# Altium footprint library RFtest_2.PcbLib: 30 footprints (part 2 of 2)
Each footprint in its own frame and in the unit in brackets; x right, y up, seen from the top. Pads: shape width x height; smd on the part's side, far side on the other; paste and mask are expansions set on the pad; w line width, h text height; cw(c..) or ccw(c..) is an arc to the next point about the centre after c.
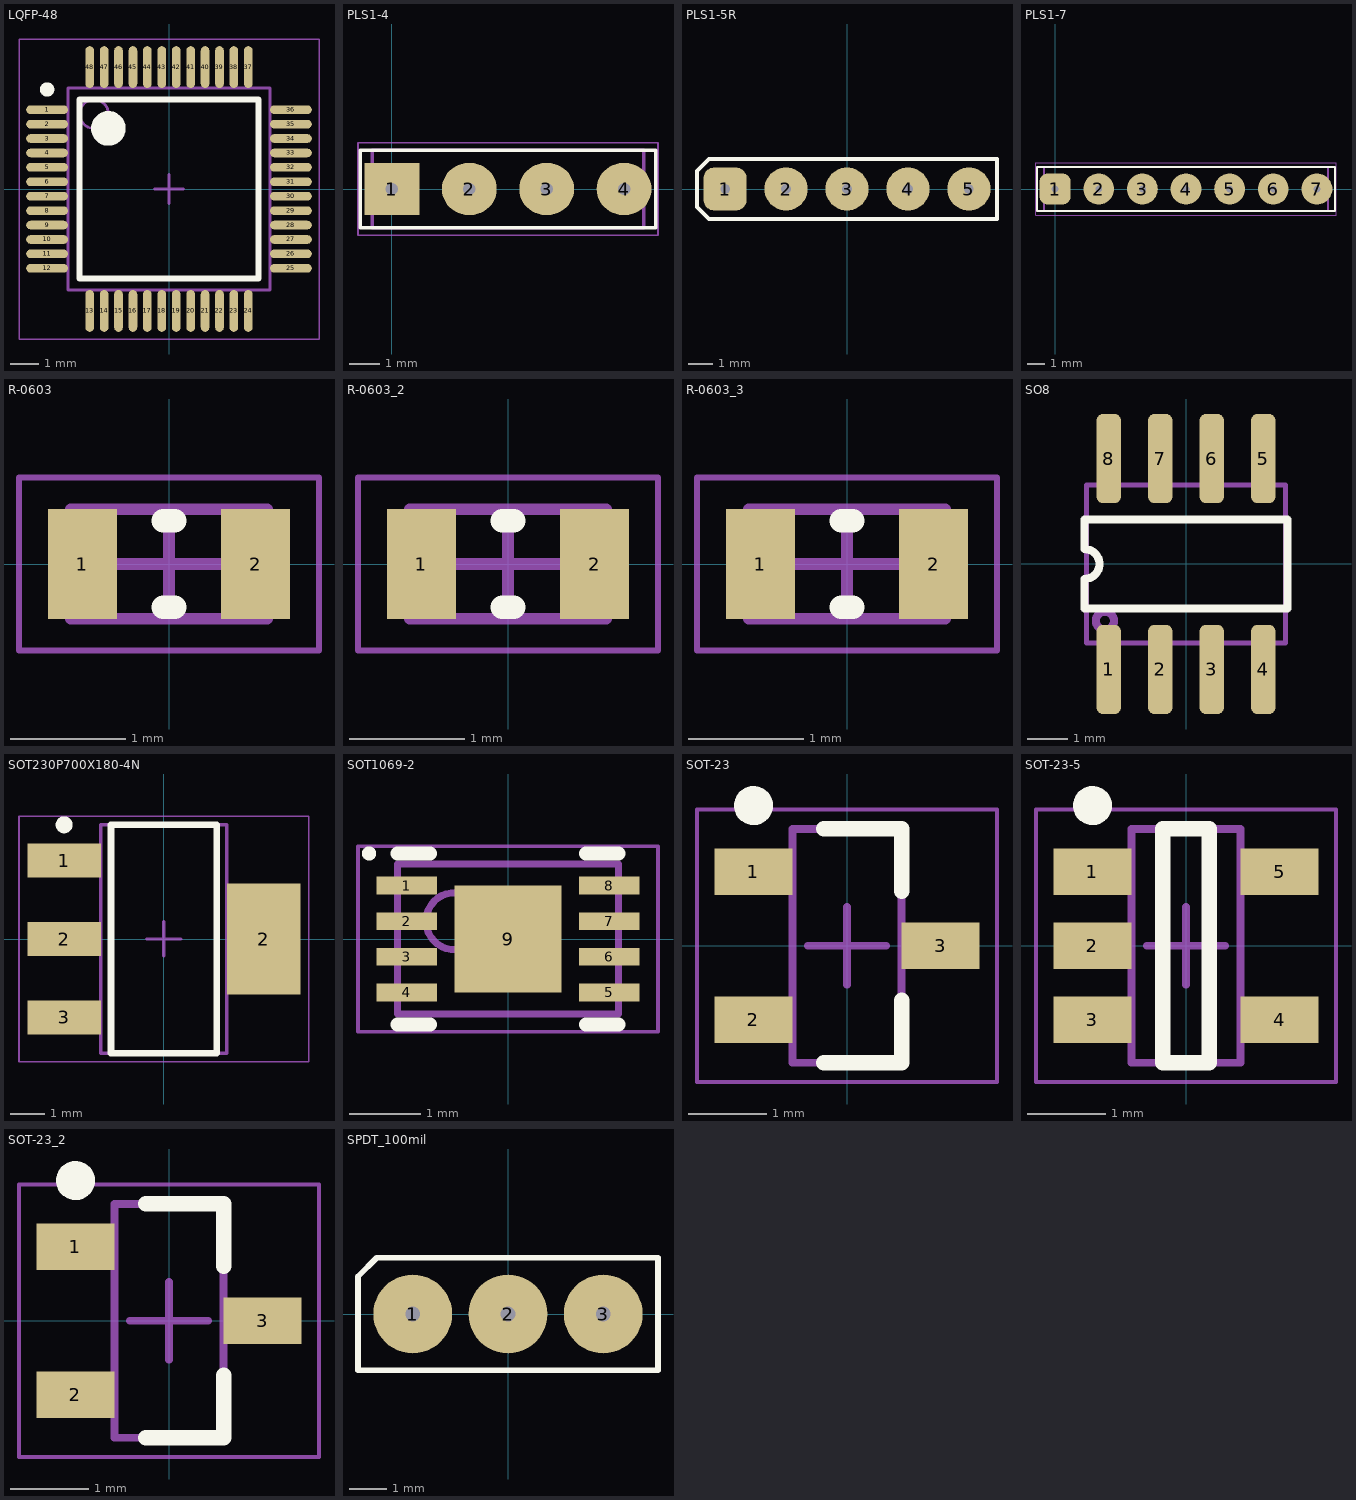
[diagram p1: the footprints below, top view; thin cyan lines are the x and y axes]

## LQFP-48 [mm] "TSQFP, 48-Leads, Body 7,00x7,00mm, Pitch 0,50mm, IPC Medium Density"
height 1.6
pads (48):
  oval 1.45x0.3 smd: 1(-4.225,2.75) 2(-4.225,2.25) 3(-4.225,1.75) 4(-4.225,1.25) 5(-4.225,0.75) 6(-4.225,0.25) 7(-4.225,-0.25) 8(-4.225,-0.75) 9(-4.225,-1.25) 10(-4.225,-1.75) 11(-4.225,-2.25) 12(-4.225,-2.75) 25(4.225,-2.75) 26(4.225,-2.25) 27(4.225,-1.75) 28(4.225,-1.25) 29(4.225,-0.75) 30(4.225,-0.25) 31(4.225,0.25) 32(4.225,0.75) 33(4.225,1.25) 34(4.225,1.75) 35(4.225,2.25) 36(4.225,2.75)
  oval 0.3x1.45 smd: 13(-2.75,-4.225) 14(-2.25,-4.225) 15(-1.75,-4.225) 16(-1.25,-4.225) 17(-0.75,-4.225) 18(-0.25,-4.225) 19(0.25,-4.225) 20(0.75,-4.225) 21(1.25,-4.225) 22(1.75,-4.225) 23(2.25,-4.225) 24(2.75,-4.225) 37(2.75,4.225) 38(2.25,4.225) 39(1.75,4.225) 40(1.25,4.225) 41(0.75,4.225) 42(0.25,4.225) 43(-0.25,4.225) 44(-0.75,4.225) 45(-1.25,4.225) 46(-1.75,4.225) 47(-2.25,4.225) 48(-2.75,4.225)
Top Overlay:
  circle w0.25: c-4.225,3.45 r0.125
  circle w0.6: c-2.1,2.1 r0.3
  lines w0.2: -3.1,-3.1 -3.1,3.1 3.1,3.1 3.1,-3.1 -3.1,-3.1
Mechanical 13:
  circle w0.1: c-2.6,2.6 r0.5
  lines w0.1: -3.5,-3.5 -3.5,3.5 3.5,3.5 3.5,-3.5 -3.5,-3.5
Mechanical 15:
  lines w0.05: -5.2,-5.2 -5.2,5.2 5.2,5.2 5.2,-5.2 -5.2,-5.2
  lines w0.1: -0.5,0 0.5,0 ; 0,-0.5 0,0.5
3D body: height 1.6, standoff 0.05, extent -3.5,-3.5 3.5,3.5

## PLS1-4 [mm] "Header, Vertical, 2.54 mm pitch; 0.70 mm lead width, 4 pins, 1 row, 4 pins per row, 8.89 mm L X 2.54 mm W X 7.54 mm H body"
height 7.54
pads (4):
  rect 1.8x1.71 hole 0.4 paste-1.71: 1(0,0)
  oval 1.8x1.71 hole 0.4 paste-1.71: 2(2.54,0) 3(5.08,0) 4(7.62,0)
Top Overlay:
  lines w0.12: -1.04,-1.27 -1.04,1.27 8.66,1.27 8.66,-1.27 -1.04,-1.27
Mechanical 11:
  lines w0.12: -0.64,-1.27 -0.64,1.27 8.26,1.27 8.26,-1.27 -0.64,-1.27
Mechanical 12:
  lines w0.025: -0.635,-1.27 -0.635,1.27 8.255,1.27 8.255,-1.27 -0.635,-1.27 ; -0.35,-0.35 -0.35,0.35 0.35,0.35 0.35,-0.35 -0.35,-0.35 ; 2.19,-0.35 2.19,0.35 2.89,0.35 2.89,-0.35 2.19,-0.35 ; 4.73,-0.35 4.73,0.35 5.43,0.35 5.43,-0.35 4.73,-0.35 ; 7.27,-0.35 7.27,0.35 7.97,0.35 7.97,-0.35 7.27,-0.35
Mechanical 15:
  circle w0.05: c0,0 r0.25
  lines w0.05: -0.35,0 0.35,0 ; 0,-0.35 0,0.35 ; -1.11,-1.52 -1.11,1.52 8.73,1.52 8.73,-1.52 -1.11,-1.52
3D body "HDRV4W70P254_4X1_889X254H754.STEP": height 7.54, standoff -2.3, extent -0.635,-1.27 8.255,1.27

## PLS1-5R [mm]
pads (5):
  rrect50% 1.8x1.8 hole 0.4: 1(-5.08,0)
  round 1.8 hole 0.4: 2(-2.54,0) 3(0,0) 4(2.54,0) 5(5.08,0)
Top Overlay:
  lines w0.15: -6.25,-0.75 -5.75,-1.25 6.25,-1.25 6.25,1.25 -5.75,1.25 -6.25,0.75 -6.25,-0.75
3D body "DS1022-1x5RDF11.stp": height 2.5, standoff -3, extent -6.35,-10.03 6.35,0.32

## PLS1-7 [mm] "Header, Vertical, 2.54 mm pitch; 0.70 mm lead width, 7 pins, 1 row, 7 pins per row, 16.51 mm L X 2.54 mm W X 7.54 mm H body"
height 7.54
pads (7):
  rrect50% 1.8x1.8 hole 0.4 paste-1.71: 1(0,0)
  round 1.8 hole 0.4 paste-1.71: 2(2.54,0) 3(5.08,0) 4(7.62,0) 5(10.16,0) 6(12.7,0) 7(15.24,0)
Top Overlay:
  lines w0.12: -1.04,-1.27 16.28,-1.27 16.28,1.27 -1.04,1.27 -1.04,-1.27
Mechanical 11:
  lines w0.12: -0.64,-1.27 15.88,-1.27 15.88,1.27 -0.64,1.27 -0.64,-1.27
Mechanical 12:
  lines w0.025: -0.635,-1.27 15.875,-1.27 15.875,1.27 -0.635,1.27 -0.635,-1.27 ; -0.35,-0.35 0.35,-0.35 0.35,0.35 -0.35,0.35 -0.35,-0.35 ; 2.19,-0.35 2.89,-0.35 2.89,0.35 2.19,0.35 2.19,-0.35 ; 4.73,-0.35 5.43,-0.35 5.43,0.35 4.73,0.35 4.73,-0.35 ; 7.27,-0.35 7.97,-0.35 7.97,0.35 7.27,0.35 7.27,-0.35 ; 9.81,-0.35 10.51,-0.35 10.51,0.35 9.81,0.35 9.81,-0.35 ; 12.35,-0.35 13.05,-0.35 13.05,0.35 12.35,0.35 12.35,-0.35 ; 14.89,-0.35 15.59,-0.35 15.59,0.35 14.89,0.35 14.89,-0.35
Mechanical 15:
  circle w0.05: c0,0 r0.25
  lines w0.05: -0.35,0 0.35,0 ; 0,-0.35 0,0.35 ; -1.11,-1.52 16.35,-1.52 16.35,1.52 -1.11,1.52 -1.11,-1.52
3D body "HDRV7W70P254_7X1_1651X254H754.STEP": height 7.54, standoff -2.3, extent -0.635,-1.27 15.875,1.27

## R-0603 [mm] "Chip Resistor, 2-Leads, Body 1,60x0,82mm, IPC Medium Density"
height 0.6
pads (2):
  rect 0.6x0.95 smd: 1(-0.75,0) 2(0.75,0)
Top Overlay:
  lines w0.2: -0.05,-0.375 0.05,-0.375 ; -0.05,0.375 0.05,0.375
Mechanical 13:
  lines w0.1: -0.85,-0.475 -0.85,0.475 0.85,0.475 0.85,-0.475 -0.85,-0.475
Mechanical 15:
  lines w0.05: -1.3,-0.75 -1.3,0.75 1.3,0.75 1.3,-0.75 -1.3,-0.75
  lines w0.1: -0.475,0 0.475,0 ; 0,-0.475 0,0.475
3D body: height 0.6, standoff 0, extent -0.65,-0.475 0.65,0.475
3D body: height 0.6, standoff 0, extent -0.85,-0.475 -0.65,0.475
3D body: height 0.6, standoff 0, extent 0.65,-0.475 0.85,0.475

## R-0603_2 [mm]
pads (2):
  rect 0.6x0.95 smd: 1(-0.75,0) 2(0.75,0)
Top Overlay:
  lines w0.2: -0.05,-0.375 0.05,-0.375 ; -0.05,0.375 0.05,0.375
Mechanical 13:
  lines w0.1: -0.85,-0.475 -0.85,0.475 0.85,0.475 0.85,-0.475 -0.85,-0.475
Mechanical 15:
  lines w0.05: -1.3,-0.75 -1.3,0.75 1.3,0.75 1.3,-0.75 -1.3,-0.75
  lines w0.1: -0.475,0 0.475,0 ; 0,-0.475 0,0.475
3D body: height 0.6, standoff 0, extent -0.65,-0.475 0.65,0.475
3D body: height 0.6, standoff 0, extent -0.85,-0.475 -0.65,0.475
3D body: height 0.6, standoff 0, extent 0.65,-0.475 0.85,0.475

## R-0603_3 [mm]
pads (2):
  rect 0.6x0.95 smd: 1(-0.75,0) 2(0.75,0)
Top Overlay:
  lines w0.2: -0.05,-0.375 0.05,-0.375 ; -0.05,0.375 0.05,0.375
Mechanical 13:
  lines w0.1: -0.85,-0.475 -0.85,0.475 0.85,0.475 0.85,-0.475 -0.85,-0.475
Mechanical 15:
  lines w0.05: -1.3,-0.75 -1.3,0.75 1.3,0.75 1.3,-0.75 -1.3,-0.75
  lines w0.1: -0.475,0 0.475,0 ; 0,-0.475 0,0.475
3D body: height 0.6, standoff 0, extent -0.65,-0.475 0.65,0.475
3D body: height 0.6, standoff 0, extent -0.85,-0.475 -0.65,0.475
3D body: height 0.6, standoff 0, extent 0.65,-0.475 0.85,0.475

## SO8 [mm] "Small Outline; 8 Leads; Body Width 3.9 mm; Pitch 1.27 mm"
height 1.75
pads (8):
  rrect50% 0.6x2.2 smd: 1(-1.905,-2.6) 2(-0.635,-2.6) 3(0.635,-2.6) 4(1.905,-2.6) 5(1.905,2.6) 6(0.635,2.6) 7(-0.635,2.6) 8(-1.905,2.6)
Top Overlay:
  lines w0.2: -2.5,-1.1 2.5,-1.1 2.5,1.1 -2.5,1.1 -2.5,0.367 cw(c-2.5,0) -2.5,-0.367 -2.5,-1.1
Mechanical 13:
  circle w0.2: c-2,-1.4 r0.224
  lines w0.1: -2.1,-1.95 -2.1,-2.55 ; -2.1,1.95 -2.125,1.975 -2.125,2.55 ; -1.7,-1.95 -1.675,-1.975 -1.675,-2.55 ; -1.7,1.95 -1.7,2.55 ; -0.85,-1.95 -0.85,-2.55 ; -0.825,1.95 -0.85,1.975 -0.85,2.55 ; -0.45,-1.95 -0.425,-1.975 -0.425,-2.55 ; -0.425,1.95 -0.425,2.55 ; 0.425,-1.95 0.425,-2.55 ; 0.45,1.95 0.425,1.975 0.425,2.55 ; 0.825,-1.95 0.85,-1.975 0.85,-2.55 ; 0.85,1.95 0.85,2.55 ; 1.7,-1.95 1.7,-2.55 ; 1.7,1.95 1.675,1.975 1.675,2.55 2.1,2.55 2.1,1.95 ; 2.1,-1.95 2.125,-1.975 2.125,-2.55 ; -2.125,2.55 -1.7,2.55 ; -2.125,2.55 -2.125,3.05 -1.7,3.05 -1.7,2.55 ; -2.125,2.55 -1.7,2.55 ; -2.1,-2.55 -1.675,-2.55 ; -2.1,-2.55 -2.1,-3.05 -1.675,-3.05 -1.675,-2.55 ; -0.85,-2.55 -0.425,-2.55 ; -0.85,-2.55 -0.425,-2.55 ; -0.85,-2.55 -0.85,-3.05 -0.425,-3.05 -0.425,-2.55 ; -0.85,-2.55 -0.425,-2.55 ; -0.85,2.55 -0.425,2.55 ; -0.85,2.55 -0.425,2.55 ; -0.85,2.55 -0.85,3.05 -0.425,3.05 -0.425,2.55 ; -0.85,2.55 -0.425,2.55 ; 0.425,-2.55 0.85,-2.55 ; 0.425,-2.55 0.85,-2.55 ; 0.425,-2.55 0.425,-3.05 0.85,-3.05 0.85,-2.55 ; 0.425,-2.55 0.85,-2.55 ; 0.425,2.55 0.85,2.55 ; 0.425,2.55 0.85,2.55 ; 0.425,2.55 0.425,3.05 0.85,3.05 0.85,2.55 ; 0.425,2.55 0.85,2.55 ; 1.675,2.525 2.1,2.525 ; 1.675,2.525 1.675,3.025 2.1,3.025 2.1,2.525 ; 1.675,2.525 2.1,2.525 ; 1.7,-2.55 2.125,-2.55 ; 1.7,-2.55 2.125,-2.55 ; 1.7,-2.55 1.7,-3.05 2.125,-3.05 2.125,-2.55 ; 1.7,-2.55 2.125,-2.55
  lines w0.127: -2.45,-1.95 -2.45,1.95 2.45,1.95 2.45,-1.95 -2.45,-1.95
3D body: height 1.73, standoff 0, extent -2.45,-1.95 2.45,1.95

## SOT230P700X180-4N [mm] "SOT223, 4-Leads, Body 6,50x7,00mm (avg), Pitch 2,30mm, IPC Medium Density"
height 1.8
pads (4):
  rect 2.15x1 smd: 1(-2.925,2.3) 2(-2.925,0) 3(-2.925,-2.3)
  rect 2.15x3.25 smd: 2(2.925,0)
Top Overlay:
  circle w0.25: c-2.925,3.35 r0.125
  lines w0.2: -1.55,-3.35 1.55,-3.35 1.55,3.35 -1.55,3.35 -1.55,-3.35
Mechanical 13:
  lines w0.1: -1.85,-3.35 1.85,-3.35 1.85,3.35 -1.85,3.35 -1.85,-3.35
Mechanical 15:
  lines w0.05: -4.25,-3.6 4.25,-3.6 4.25,3.6 -4.25,3.6 -4.25,-3.6
  lines w0.1: -0.5,0 0.5,0 ; 0,-0.5 0,0.5
3D body: height 1.8, standoff 0.02, extent -1.85,-3.35 1.85,3.35

## SOT1069-2 [mm] "8-lead DFN 2*3mm"
height 0.8
pads (9):
  rect 0.85x0.25 smd: 1(-1.42,0.75) 2(-1.42,0.25) 3(-1.42,-0.25) 4(-1.42,-0.75) 5(1.42,-0.75) 6(1.42,-0.25) 7(1.42,0.25) 8(1.42,0.75)
  rect 1.5x1.5 smd: 9(0,0)
Top Overlay:
  circle w0.1: c-1.95,1.2 r0.05
  lines w0.2: -1.55,-1.2 -1.095,-1.2 ; -1.55,1.2 -1.095,1.2 ; 1.095,-1.2 1.55,-1.2 ; 1.095,1.2 1.55,1.2
Mechanical 13:
  circle w0.1: c-0.75,0.25 r0.4
  lines w0.1: -1.55,-1.05 -1.55,1.05 1.55,1.05 1.55,-1.05 -1.55,-1.05
Mechanical 15:
  lines w0.05: -2.105,-1.3 -2.105,1.3 2.105,1.3 2.105,-1.3 -2.105,-1.3
  lines w0.1: -0.5,0 0.5,0 ; 0,-0.5 0,0.5
3D body: height 0.8, standoff 0, extent -1.55,-1.05 1.55,1.05

## SOT-23 [mm] "SOT23, 3-Leads, Body 2,90x2,45mm, Pitch 0,95mm, IPC Medium Density"
height 1.1
pads (3):
  rect 1x0.6 smd: 1(-1.2,0.95) 2(-1.2,-0.95) 3(1.2,0)
Top Overlay:
  circle w0.25: c-1.2,1.8 r0.125
  lines w0.2: -0.3,-1.5 0.7,-1.5 0.7,-0.7 ; -0.3,1.5 0.7,1.5 0.7,0.7
Mechanical 13:
  lines w0.1: -0.7,-1.5 -0.7,1.5 0.7,1.5 0.7,-1.5 -0.7,-1.5
Mechanical 15:
  lines w0.05: -1.925,-1.75 -1.925,1.75 1.925,1.75 1.925,-1.75 -1.925,-1.75
  lines w0.1: -0.5,0 0.5,0 ; 0,-0.5 0,0.5
3D body: height 1.1, standoff 0.05, extent -0.7,-1.5 0.7,1.5

## SOT-23-5 [mm] "SOT23, 5-Leads, Body 2,90x2,45mm, Pitch 0,95mm, IPC Medium Density"
height 1.1
pads (5):
  rect 1x0.6 smd: 1(-1.2,0.95) 2(-1.2,0) 3(-1.2,-0.95) 4(1.2,-0.95) 5(1.2,0.95)
Top Overlay:
  circle w0.25: c-1.2,1.8 r0.125
  lines w0.2: -0.3,-1.5 -0.3,1.5 0.3,1.5 0.3,-1.5 -0.3,-1.5
Mechanical 13:
  lines w0.1: -0.7,-1.5 0.7,-1.5 0.7,1.5 -0.7,1.5 -0.7,-1.5
Mechanical 15:
  lines w0.05: -1.925,-1.75 1.925,-1.75 1.925,1.75 -1.925,1.75 -1.925,-1.75
  lines w0.1: -0.5,0 0.5,0 ; 0,-0.5 0,0.5
3D body: height 1.1, standoff 0.05, extent -0.7,-1.5 0.7,1.5

## SOT-23_2 [mm]
pads (3):
  rect 1x0.6 smd: 1(-1.2,0.95) 2(-1.2,-0.95) 3(1.2,0)
Top Overlay:
  circle w0.25: c-1.2,1.8 r0.125
  lines w0.2: -0.3,-1.5 0.7,-1.5 0.7,-0.7 ; -0.3,1.5 0.7,1.5 0.7,0.7
Mechanical 13:
  lines w0.1: -0.7,-1.5 -0.7,1.5 0.7,1.5 0.7,-1.5 -0.7,-1.5
Mechanical 15:
  lines w0.05: -1.925,-1.75 -1.925,1.75 1.925,1.75 1.925,-1.75 -1.925,-1.75
  lines w0.1: -0.5,0 0.5,0 ; 0,-0.5 0,0.5
3D body: height 1.1, standoff 0.05, extent -0.7,-1.5 0.7,1.5

## SPDT_100mil [mm]
pads (3):
  round 2.1 hole 0.4: 1(-2.54,0) 2(0,0) 3(2.54,0)
Top Overlay:
  lines w0.15: -4,-1.5 4,-1.5 4,1.5 -3.5,1.5 -4,1 -4,-1.5
3D body "Vertical slide switch SS-12D00G3 High Knob 3mm SPDT v2.step": height 6.34, standoff -4.91, extent -4.295,-1.885 4.295,1.885